# EAGLE library part BO-BMP180 (library FaBo-Mems)
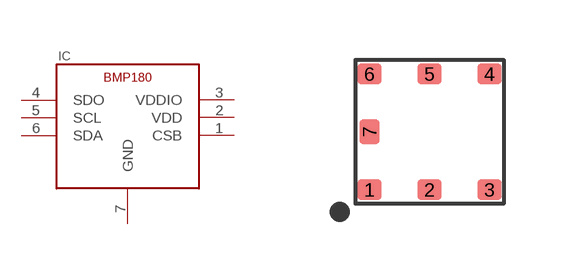
[diagram p17: symbol with the pads of BOSCH-BMP180; footprint BOSCH-BMP180]

Designator prefix IC

## BO-BMP180  [BOSCH-BMP180]
1  CSB
2  VDD
3  VDDIO
4  SDO
5  SCL
6  SDA
7  GND

## Footprint BOSCH-BMP180 (pad centres in mm)
smd 0.6 x 0.5: 1 -1.5,-1.45; 2 0,-1.45; 3 1.5,-1.45; 4 1.5,1.45; 5 0,1.45; 6 -1.5,1.45
smd 0.5 x 0.6: 7 -1.5,0